# EAGLE library part PCA9306 (library Texas Instruments)
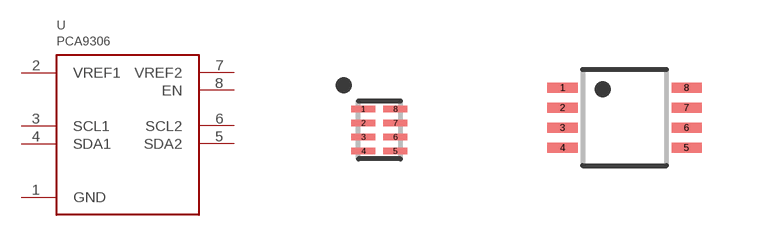
[diagram p1: symbol with the pads of X2SON; footprints X2SON, VSSOP8]

Designator prefix U

## PCA9306-DQE  [X2SON]
1  GND
2  VREF1
3  SCL1
4  SDA1
5  SDA2
6  SCL2
7  VREF2
8  EN

## PCA9306-DCU  [VSSOP8]
Pads as for X2SON

## PCA9306-YZT  [XBGA8]
A1  GND
A2  EN
B1  VREF1
B2  VREF2
C1  SCL1
C2  SCL2
D1  SDA1
D2  SDA2

## Footprint X2SON (pad centres in mm)
smd 0.6 x 0.165: 1 -0.4,0.525; 2 -0.4,0.175; 3 -0.4,-0.175; 4 -0.4,-0.525; 5 0.4,-0.525; 6 0.4,-0.175; 7 0.4,0.175; 8 0.4,0.525

## Footprint VSSOP8 (pad centres in mm)
smd 0.75 x 0.25: 1 -1.55,0.75; 2 -1.55,0.25; 3 -1.55,-0.25; 4 -1.55,-0.75; 5 1.55,-0.75; 6 1.55,-0.25; 7 1.55,0.25; 8 1.55,0.75

## Footprint XBGA8 (pad centres in mm)
smd 0.25 x 0.25: A1 -0.25,-0.75; A2 0.25,-0.75; B1 -0.25,-0.25; B2 0.25,-0.25; C1 -0.25,0.25; C2 0.25,0.25; D1 -0.25,0.75; D2 0.25,0.75